# Altium schematic symbol library B-NT_CONNECT.SchLib: 107 symbols (part 2 of 2)
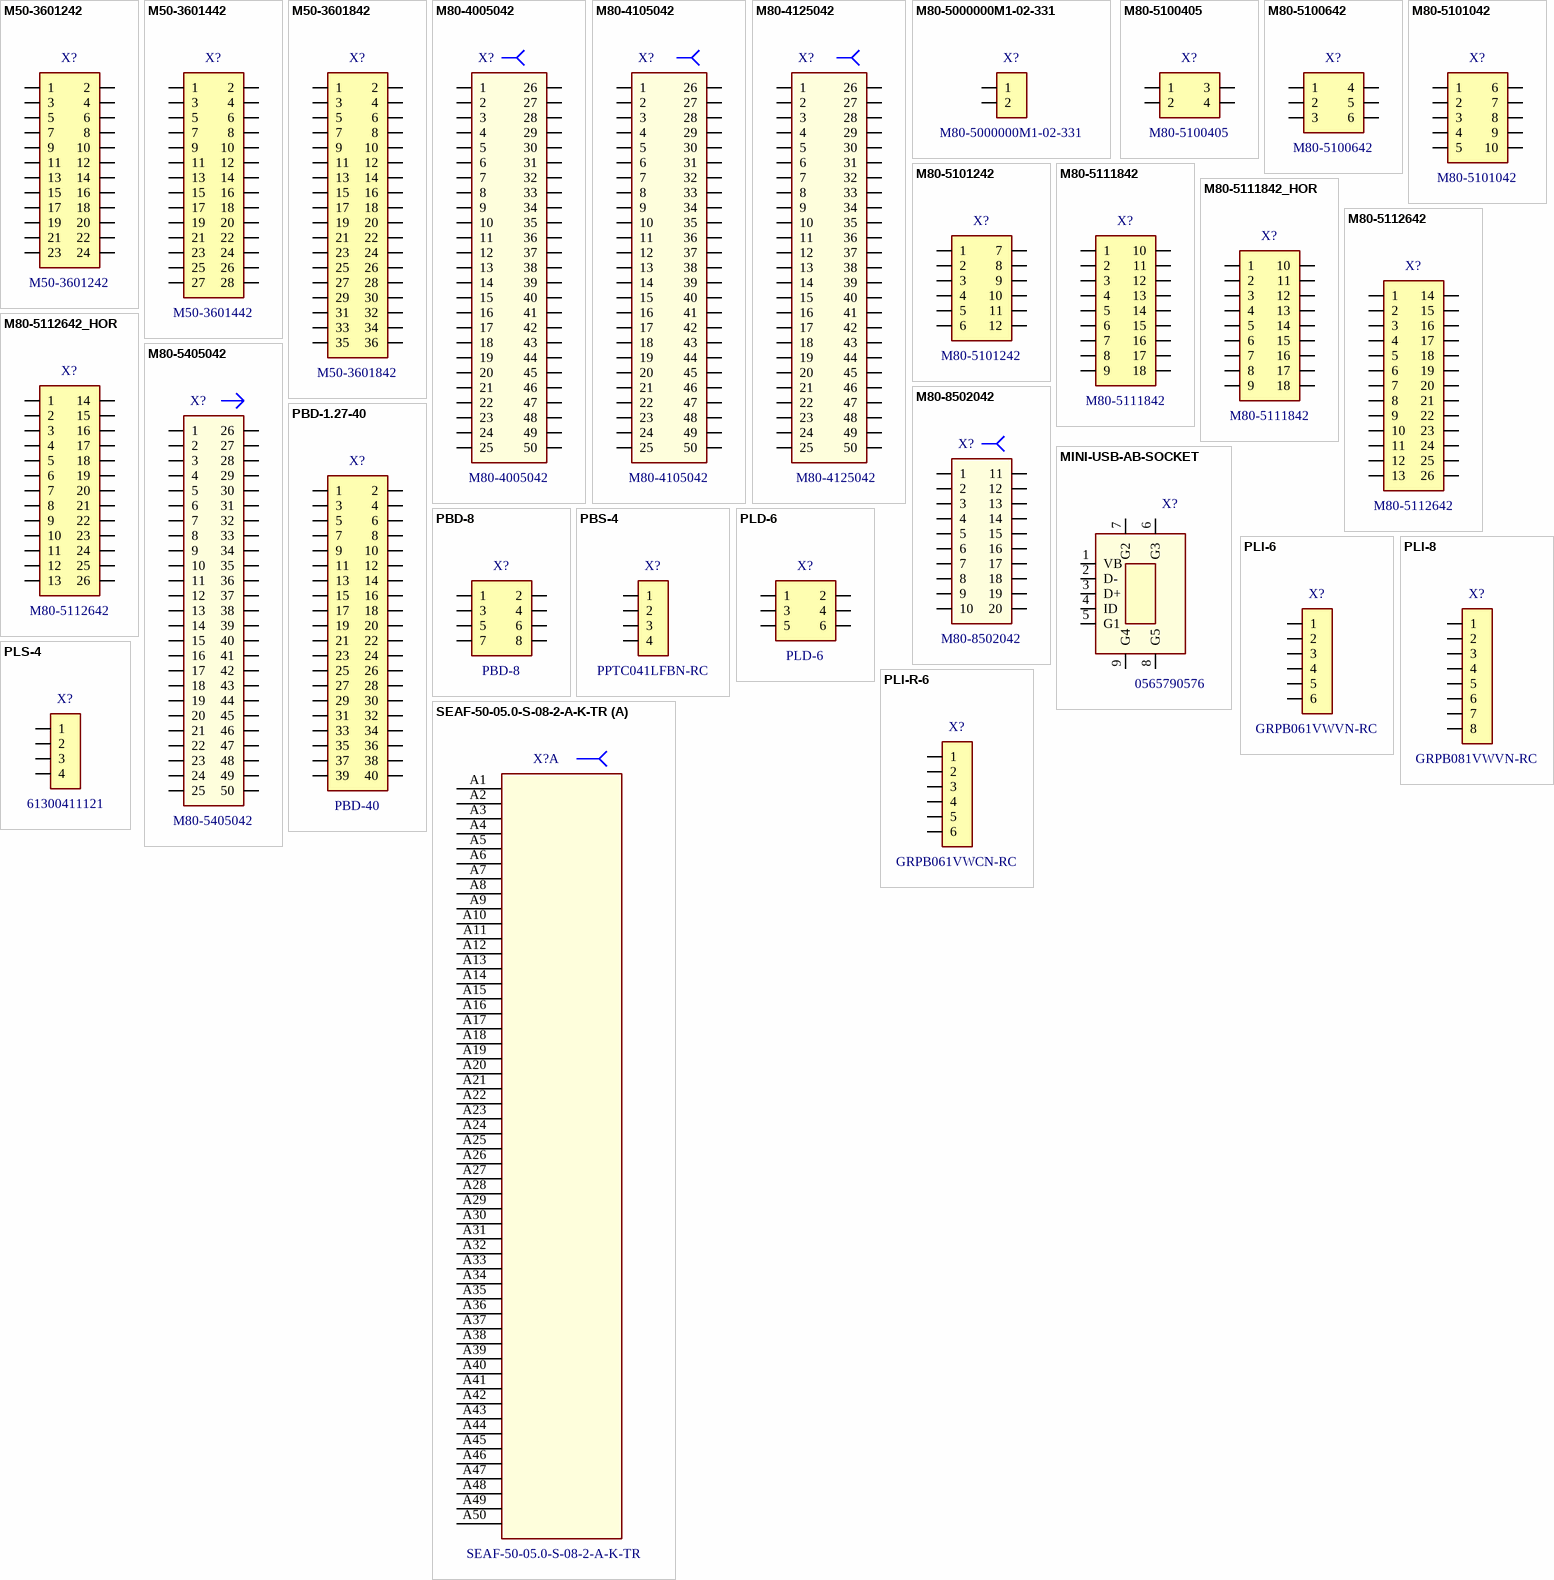
[diagram p8: symbols M50-3601242 to SEAF-50-05.0-S-08-2-A-K-TR]

## M80-5000000M1-02-331
designator X?  value M80-5000000M1-02-331
MIX-TEK 2 POS DIL MALE 4.0MM 20A 600V; ValueManufacturer: Harvin Inc.; PowerVoltage: 20A, 600V; ValueDescription: M80-5000000M1-02-331 Вилка Harvin Inc.  6.05x18.4mm  20A, 600V; ValueType: Connector; Price: 15.93; ComponentLink1Description: Harvin Datasheet; ComponentLink1URL: https://cdn.harwin.com/pdfs/C005XX_M80_and_M83_Datamate_Series_Connectors.pdf; Package: 6.05x18.4mm; TechSpec: 20A, 600V; ValueManufacturerPartNumber: M80-5000000M1-02-331; Operating Temperature: -55°C~125°C; CheckDate: SC 15.11.17
footprint M80-5000000M1-02-331
pins: 1, 2
1 alternate drawing of the same symbol

## M80-5100405
designator X?  value M80-5100405
J-TEK 4 POS DIL MALE 2.0MM 2.2A 800V; ValueManufacturer: Harvin Inc.; PowerVoltage: 2.2A, 800V; ValueDescription: M80-5100405 Вилка Harvin Inc.  6.05x14.4mm  2.2A, 800V; ValueType: Connector; Price: 15.93; ComponentLink1Description: Harvin Datasheet; ComponentLink1URL: https://cdn.harwin.com/pdfs/C005XX_M80_and_M83_Datamate_Series_Connectors.pdf; Package: 6.05x14.4mm; TechSpec: 2.2A, 800V; ValueManufacturerPartNumber: M80-5100405; Operating Temperature: -55°C~125°C; CheckDate: SC 15.11.17
footprint M80-5100405
pins: 1, 2, 3, 4

## M80-5100642
designator X?  value M80-5100642
J-TEK 6 POS DIL MALE 2.0MM 2.2A 800V; ValueManufacturer: Harvin Inc.; PowerVoltage: 2.2A, 800V; ValueDescription: M80-5100642 Вилка Harvin Inc.  6.05x16.4mm  2.2A, 800V; ValueType: Connector; Price: 11.51; ComponentLink1Description: Harvin Datasheet; ComponentLink1URL: https://cdn.harwin.com/pdfs/C005XX_M80_and_M83_Datamate_Series_Connectors.pdf; Package: 6.05x16.4mm; TechSpec: 2.2A, 800V; ValueManufacturerPartNumber: M80-5100642; Operating Temperature: -55°C~125°C; CheckDate: SC 15.11.17
footprint M80-5100642
pins: 1, 2, 3, 4, 5, 6

## M80-5101042
designator X?  value M80-5101042
J-TEK 10 POS DIL MALE 2.0MM 2.2A 800V; ValueManufacturer: Harvin Inc.; PowerVoltage: 2.2A, 800V; ValueDescription: M80-5101042 Вилка Harvin Inc.  6.05x20.4mm  2.2A, 800V; ValueType: Connector; Price: 11.96; ComponentLink1Description: Harvin Datasheet; ComponentLink1URL: https://cdn.harwin.com/pdfs/C005XX_M80_and_M83_Datamate_Series_Connectors.pdf; Package: 6.05x20.4mm; TechSpec: 2.2A, 800V; ValueManufacturerPartNumber: M80-5101042; Operating Temperature: -55°C~125°C; CheckDate: SC 15.11.17
footprint M80-5101042
pins: 1, 2, 3, 4, 5, 6, 7, 8, 9, 10

## M80-5101242
designator X?  value M80-5101242
J-TEK 12 POS DIL MALE 2.0MM 2.2A 800V; ValueManufacturer: Harvin Inc.; PowerVoltage: 2.2A, 800V; ValueDescription: M80-5101242 Вилка Harvin Inc.  6.05x22.4mm  2.2A, 800V; ValueType: Connector; Price: 9,3; ComponentLink1Description: Harvin Datasheet; ComponentLink1URL: https://cdn.harwin.com/pdfs/Harwin_Product_Catalog_page_105.pdf; Package: 6.05x22.4mm; TechSpec: 2.2A, 800V; ValueManufacturerPartNumber: M80-5101242; Operating Temperature: -55°C~125°C; CheckDate: SC 15.11.17
footprint M80-5101242
pins: 1, 2, 3, 4, 5, 6, 7, 8, 9, 10, 11, 12

## M80-5111842
designator X?  value M80-5111842
J-TEK 18 POS DIL MALE 2.0MM 2.2A 800V; ValueManufacturer: Harvin Inc.; PowerVoltage: 2.2A, 800V; ValueDescription: M80-5111842 Вилка Harvin Inc.  6.05x28mm  2.2A, 800V; ValueType: Connector; Price: 13.11; ComponentLink1Description: Harvin Datasheet; ComponentLink1URL: https://cdn.harwin.com/pdfs/M80-511.pdf; Package: 6.05x28mm; TechSpec: 2.2A, 800V; ValueManufacturerPartNumber: M80-5111842; Operating Temperature: -55°C~125°C; CheckDate: SC 15.11.17
footprint M80-5111842
pins: 1, 2, 3, 4, 5, 6, 7, 8, 9, 10, 11, 12, 13, 14, 15, 16, 17, 18

## M80-5111842_HOR
designator X?  value M80-5111842
J-TEK 18 POS DIL MALE 2.0MM 2.2A 800V; ValueManufacturer: Harvin Inc.; PowerVoltage: 2.2A, 800V; ValueDescription: M80-5111842 Вилка Harvin Inc.  6.05x28mm  2.2A, 800V; ValueType: Connector; Price: 13.11; ComponentLink1Description: Harvin Datasheet; ComponentLink1URL: https://cdn.harwin.com/pdfs/M80-511.pdf; Package: 6.05x28mm; TechSpec: 2.2A, 800V; ValueManufacturerPartNumber: M80-5111842; Operating Temperature: -55°C~125°C; CheckDate: SC 15.11.17
footprint M80-5111842_HOR
pins: 1, 2, 3, 4, 5, 6, 7, 8, 9, 10, 11, 12, 13, 14, 15, 16, 17, 18

## M80-5112642
designator X?  value M80-5112642
J-TEK 26 POS DIL MALE 2.0MM 2.2A 800V; ValueManufacturer: Harvin Inc.; PowerVoltage: 2.2A, 800V; ValueDescription: M80-5112642 Вилка Harvin Inc.  6.05x36mm  2.2A, 800V; ValueType: Connector; Price: 12.13; ComponentLink1Description: Harvin Datasheet; ComponentLink1URL: https://cdn.harwin.com/pdfs/M80-511.pdf; Package: 6.05x36mm; TechSpec: 2.2A, 800V; ValueManufacturerPartNumber: M80-5112642; Operating Temperature: -55°C~125°C; CheckDate: SC 15.11.17
footprint M80-5112642
pins: 1, 2, 3, 4, 5, 6, 7, 8, 9, 10, 11, 12, 13, 14, 15, 16, 17, 18, 19, 20, 21, 22, 23, 24, 25, 26

## M80-5112642_HOR
designator X?  value M80-5112642
J-TEK 26 POS DIL MALE 2.0MM 2.2A 800V; ValueManufacturer: Harvin Inc.; PowerVoltage: 2.2A, 800V; ValueDescription: M80-5112642 Вилка Harvin Inc.  6.05x36mm  2.2A, 800V; ValueType: Connector; Price: 12.13; ComponentLink1Description: Harvin Datasheet; ComponentLink1URL: https://cdn.harwin.com/pdfs/M80-511.pdf; Package: 6.05x36mm; TechSpec: 2.2A, 800V; ValueManufacturerPartNumber: M80-5112642; Operating Temperature: -55°C~125°C; CheckDate: SC 15.11.17
footprint M80-5112642_HOR
pins: 1, 2, 3, 4, 5, 6, 7, 8, 9, 10, 11, 12, 13, 14, 15, 16, 17, 18, 19, 20, 21, 22, 23, 24, 25, 26

## M80-5405042
designator X?  value M80-5405042
CONN HDR 2MM R/A W/SCREW 50POS; ValueManufacturer: Harwin Inc.; PowerVoltage: 2.2A, 800V; TechSpec: 3A; ValueDescription: M80-5405042 Вилка Harwin Inc.  10x60mm  3A; ValueType: Male Socket; Price: 19.04; ComponentLink1Description: Harwin Datasheet; ComponentLink1URL: https://cdn.harwin.com/pdfs/M80-540.pdf; Package: 10x60mm; Operating Temperature: -55°C~125°C; CheckDate: SC *; ValueManufacturerPartNumber: M80-5405042
footprint M80-5405042 (CONN HDR 2MM R/A W/SCREW 50POS)
pins: 1, 2, 3, 4, 5, 6, 7, 8, 9, 10, 11, 12, 13, 14, 15, 16, 17, 18, 19, 20, 21, 22, 23, 24, 25, 26, 27, 28, 29, 30, 31, 32, 33, 34, 35, 36, 37, 38, 39, 40, 41, 42, 43, 44, 45, 46, 47, 48, 49, 50

## M80-8502042
designator X?  value M80-8502042
DIL FEMALE VERT PC TAIL CONN; ValueManufacturer: Harwin Inc.; PowerVoltage: 2.2A, 800V; TechSpec: 3A, 800V; ValueDescription: M80-8502042 Розетка Harwin Inc.  5.45x23.15mm  3A, 800V; ValueType: Female Socket; Price: 8.46; ComponentLink1Description: Harwin Datasheet; ComponentLink1URL: https://cdn.harwin.com/pdfs/M80-850.pdf; Package: 5.45x23.15mm; ValueManufacturerPartNumber: M80-8502042; Operating Temperature: -55°C~125°C; CheckDate: SC *
footprint M80-8502042
pins: 1, 2, 3, 4, 5, 6, 7, 8, 9, 10, 11, 12, 13, 14, 15, 16, 17, 18, 19, 20

## MINI-USB-AB-SOCKET
designator X?  value 0565790576
CONN RECEPT USB 5POS R/A SMD; ValueManufacturer: Molex LLC Connectors; TechSpec: USB 2.0 OTG; ValueDescription: 0565790576 USB розетка Molex LLC Connectors  9.9x9  USB 2.0 OTG; ValueType: Connector; Price: 2.92; ComponentLink1Description: Molex Datasheet; ComponentLink1URL: http://www.molex.com/pdm_docs/sd/565790576_sd.pdf; Package: 9.9x9; ValueManufacturerPartNumber: 0565790576; Operating Temperature: -20°C ~ 85°C; CheckDate: SC *
footprint 0565790576_mini_USB
pins: 1 VB, 2 D-, 3 D+, 4 ID, 5 G1, 6 G3, 7 G2, 8 G5, 9 G4

## PBD-1.27-40
designator X?  value PBD-40
CONN RECEPT 40POS DUAL SMD; ValueManufacturer: Amphenol FCI; ValueManufacturerPartNumber: 20021321-00040T4LF; TechSpec: Шаг 1.27; Tolerance: Gold; ValueDescription: PBD-40 Двухрядная розетка Amphenol FCI  20021321-00040T4LF  Шаг 1.27; ValueType: Connector; Price: 0.5; ComponentLink1Description: Amphenol FCI; ComponentLink1URL: https://cdn.amphenol-icc.com/media/wysiwyg/files/drawing/20021321.pdf; Package: PBD-40; Operating Temperature: -40°C ~ 105°C; CheckDate: SC *
footprint PBD-40
pins: 1, 2, 3, 4, 5, 6, 7, 8, 9, 10, 11, 12, 13, 14, 15, 16, 17, 18, 19, 20, 21, 22, 23, 24, 25, 26, 27, 28, 29, 30, 31, 32, 33, 34, 35, 36, 37, 38, 39, 40

## PBD-8
designator X?  value PBD-8
CONN HEADER FMALE 8PS; ValueManufacturer: Sullins Connector Solutions; ValueManufacturerPartNumber: PPTC042LFBN-RC; TechSpec: Шаг 2.54; ValueDescription: PBD-8 Двухрядная розетка Sullins Connector Solutions  PPTC042LFBN-RC  Шаг 2.54; ValueType: Connector; Price: 0.5; ComponentLink1Description: Sullins Connector Solutions Datasheet; ComponentLink1URL: https://lib.chipdip.ru/226/DOC000226931.pdf; Package: PBD-8; CheckDate: SC *
footprint PBD-8
pins: 1, 2, 3, 4, 5, 6, 7, 8

## PBS-4
designator X?  value PPTC041LFBN-RC
CONN HEADER FEMALE 4 POS 2.54; ValueManufacturer: Sullins Connector Solutions; PowerVoltage: 250V; TechSpec: 3A; ValueDescription: PPTC041LFBN-RC Розетка Sullins Connector Solutions  2.54x10.16mm  3A; ValueType: Connector; Price: 0.19; ComponentLink1Description: Sullins Datasheet; ComponentLink1URL: http://www.sullinscorp.com/drawings/78_P(N)PxCxxxLFBN-RC,_10492-H.pdf; Package: 2.54x10.16mm; ValueManufacturerPartNumber: PPTC041LFBN-RC; Operating Temperature: -40°C~125°C; CheckDate: SC 14.11.17
footprint PBS-4
pins: 1, 2, 3, 4

## PLD-6
designator X?  value PLD-6
PLD-6 HEADR 6POS VERT 826656-3 (Tyco/AMP); TechSpec: Шаг 2.54; ValueDescription: PLD-6 Двухрядная вилка Tyco/AMP  826656-3  Шаг 2.54; ValueType: Connector; Price: 0.5; ComponentLink1Description: Tyco/AMP Datasheet; ComponentLink1URL: http://www.farnell.com/datasheets/39269.pdf; Package: PLD-6; ValueManufacturer: Tyco/AMP; ValueManufacturerPartNumber: 826656-3; CheckDate: SC 18.12.16
footprint PLD-6
pins: 1, 2, 3, 4, 5, 6

## PLl-6
designator X?  value GRPB061VWVN-RC
CONN HEADER 6 POS 1.27; ValueManufacturer: Sullins Connector Soluti; TechSpec: 1A; ValueDescription: GRPB061VWVN-RC Вилка Sullins Connector Soluti  2.14x7.62mm  1A; ValueType: Connector; Price: 0.48; ComponentLink1Description: Sullins Connector Solution Datasheet; ComponentLink1URL: http://www.sullinscorp.com/catalogs/82_PAGE90-91_.050_MALE_HDR_ST_RA_SMT.pdf; Package: 2.14x7.62mm; ValueManufacturerPartNumber: GRPB061VWVN-RC; Operating Temperature: -40°C~105°C; CheckDate: SC 28.11.17
footprint PLL-6
pins: 1, 2, 3, 4, 5, 6

## PLl-8
designator X?  value GRPB081VWVN-RC
CONN HEADER 8 POS 1.27; ValueManufacturer: Sullins Connector Soluti; TechSpec: 1A; ValueDescription: GRPB081VWVN-RC Вилка Sullins Connector Soluti  2.14x10.16mm  1A; ValueType: Connector; Price: 0.72; Package: 2.14x10.16mm; ValueManufacturerPartNumber: GRPB081VWVN-RC; Operating Temperature: -40°C~105°C; CheckDate: SC *; ComponentLink1Description: Sullins Connector Solution Datasheet; ComponentLink1URL: http://www.sullinscorp.com/drawings/71_GRPB___1VWVN-RC,_10957-C.pdf
footprint PLL-8
pins: 1, 2, 3, 4, 5, 6, 7, 8

## PLl-R-6
designator X?  value GRPB061VWCN-RC
CONN HEADER 6 POS 1.27 RIGHT ANGLE; ValueManufacturer: Sullins Connector Soluti; TechSpec: 1A; ValueDescription: GRPB061VWCN-RC Вилка угловая Sullins Connector Soluti  5.14x7.62mm  1A; ValueType: Connector; Price: 0.65; ComponentLink1Description: Sullins Connector Solution Datasheet; ComponentLink1URL: http://www.sullinscorp.com/catalogs/82_PAGE90-91_.050_MALE_HDR_ST_RA_SMT.pdf; Package: 5.14x7.62mm; ValueManufacturerPartNumber: GRPB061VWCN-RC; Operating Temperature: -40°C~105°C; CheckDate: SC 28.11.17
footprint PLL-R-6
pins: 1, 2, 3, 4, 5, 6

## PLS-4
designator X?  value 61300411121
CONN HEADER 4 POS 2.54; ValueManufacturer: Wurth Electronics; PowerVoltage: 250V; TechSpec: 3A; ValueDescription: 61300411121 Вилка Wurth Electronics  2.54x10.16mm  3A; ValueType: Connector; Price: 0.19; ComponentLink1Description: Wurth Electronics Datasheet; ComponentLink1URL: http://katalog.we-online.de/em/datasheet/6130xx11121.pdf; Package: 2.54x10.16mm; ValueManufacturerPartNumber: 61300411121; Operating Temperature: -40°C~125°C; CheckDate: SC 14.11.17
footprint PLS-4
pins: 1, 2, 3, 4

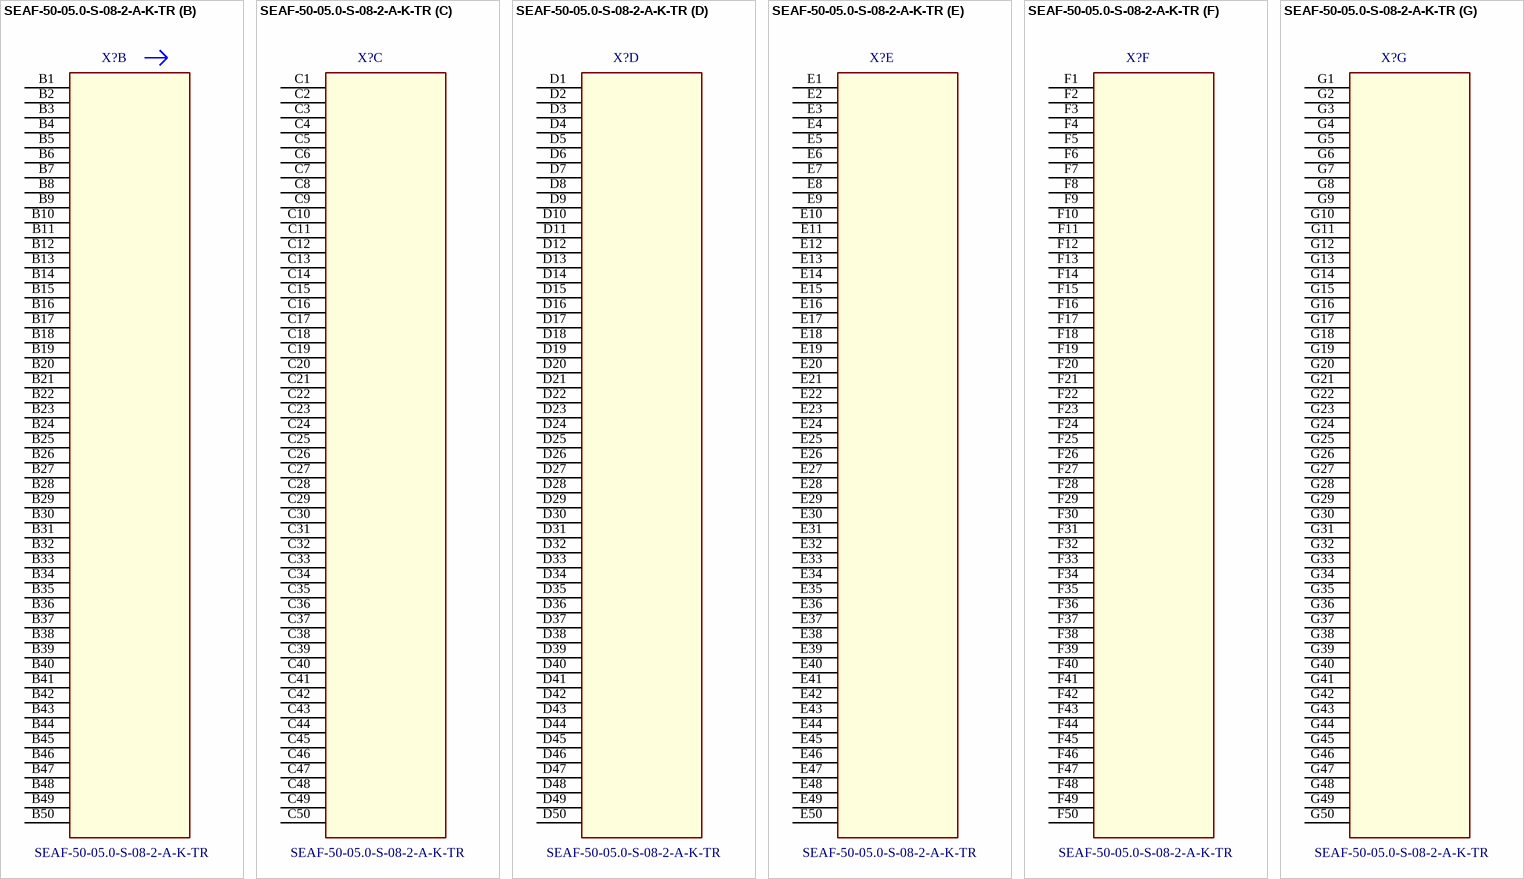
[diagram p3: symbol SEAF-50-05.0-S-08-2-A-K-TR]

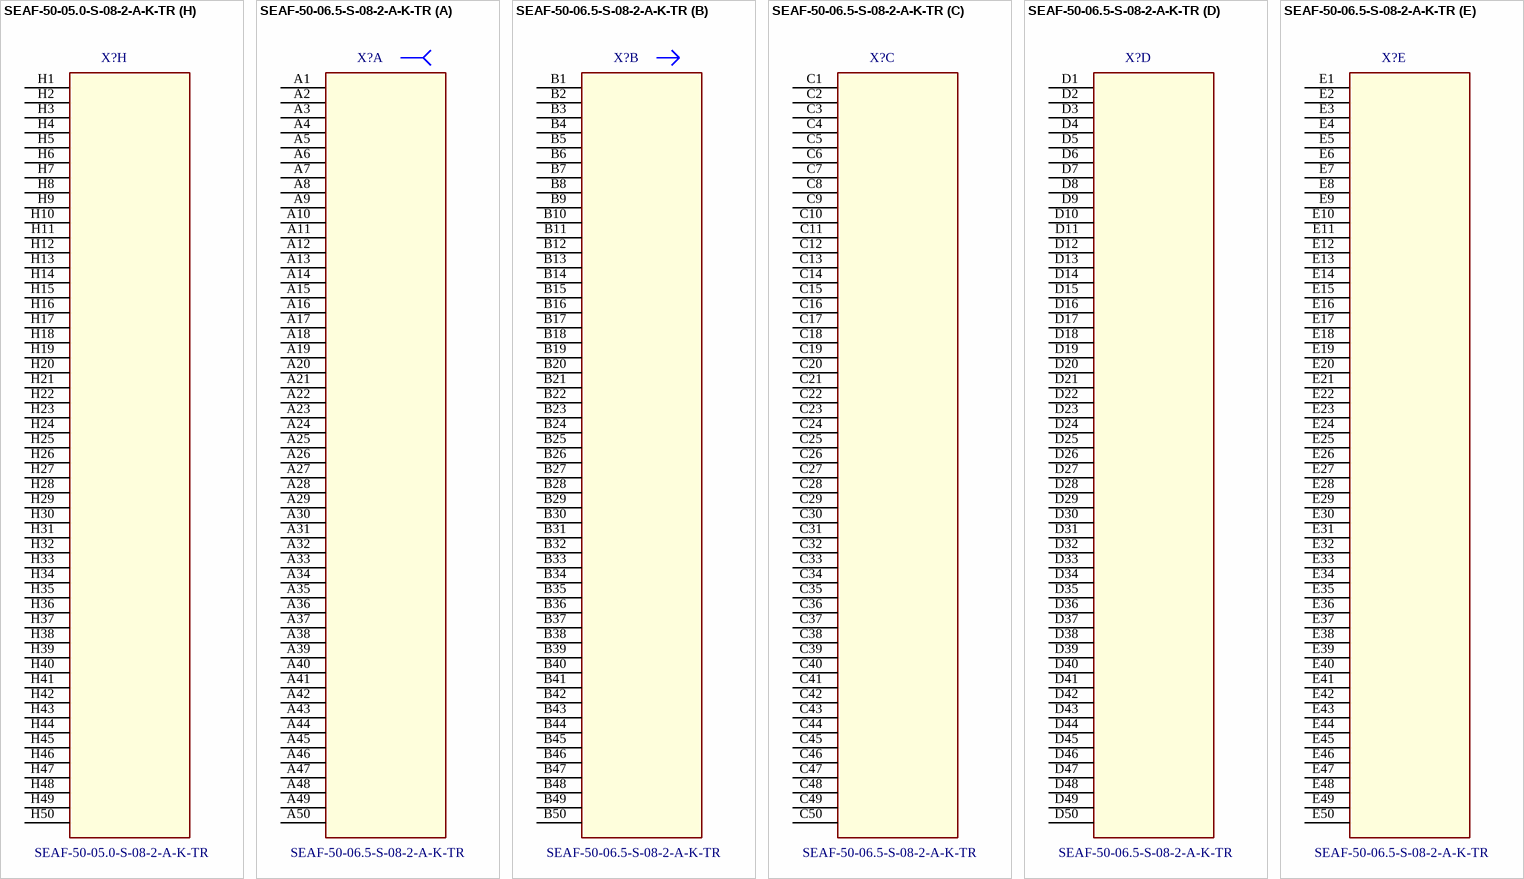
[diagram p4: symbols SEAF-50-05.0-S-08-2-A-K-TR to SEAF-50-06.5-S-08-2-A-K-TR]

## SEAF-50-05.0-S-08-2-A-K-TR
designator X?  value SEAF-50-05.0-S-08-2-A-K-TR
CONN FML 400POS 8ROW SMD GOLD; ValueManufacturer: Samtec Inc; PowerVoltage: V; ValueDescription: SEAF-50-05.0-S-08-2-A-K-TR Розетка Samtec Inc  70.16X10.74х5.05mm; ValueType: Female Socket; Price: 17,05; ComponentLink1Description: Samtec  Datasheet; ComponentLink1URL: http://suddendocs.samtec.com/prints/seaf-xx-xx.x-xx-xx-x-a-xx-k-tr-mkt.pdf; Package: 70.16X10.74х5.05mm; Operating Temperature: °C; CheckDate: SC; Publisher: Makarevich; ValueManufacturerPartNumber: SEAF-50-05.0-S-08-2-A-K-TR; PublishData: 02.03.18
footprint SEAF-50-05.0-S-08-2-A-K-TR (CONN FML 400POS 8ROW SMD GOLD)
part A pins: A1 1, A2 2, A3 3, A4 4, A5 5, A6 6, A7 7, A8 8, A9 9, A10 10, A11 11, A12 12, A13 13, A14 14, A15 15, A16 16, A17 17, A18 18, A19 19, A20 20, A21 21, A22 22, A23 23, A24 24, A25 25, A26 26, A27 27, A28 28, A29 29, A30 30, A31 31, A32 32, A33 33, A34 34, A35 35, A36 36, A37 37, A38 38, A39 39, A40 40, A41 41, A42 42, A43 43, A44 44, A45 45, A46 46, A47 47, A48 48, A49 49, A50 50
part B pins: B1 1, B2 2, B3 3, B4 4, B5 5, B6 6, B7 7, B8 8, B9 9, B10 10, B11 11, B12 12, B13 13, B14 14, B15 15, B16 16, B17 17, B18 18, B19 19, B20 20, B21 21, B22 22, B23 23, B24 24, B25 25, B26 26, B27 27, B28 28, B29 29, B30 30, B31 31, B32 32, B33 33, B34 34, B35 35, B36 36, B37 37, B38 38, B39 39, B40 40, B41 41, B42 42, B43 43, B44 44, B45 45, B46 46, B47 47, B48 48, B49 49, B50 50
part C pins: C1 1, C2 2, C3 3, C4 4, C5 5, C6 6, C7 7, C8 8, C9 9, C10 10, C11 11, C12 12, C13 13, C14 14, C15 15, C16 16, C17 17, C18 18, C19 19, C20 20, C21 21, C22 22, C23 23, C24 24, C25 25, C26 26, C27 27, C28 28, C29 29, C30 30, C31 31, C32 32, C33 33, C34 34, C35 35, C36 36, C37 37, C38 38, C39 39, C40 40, C41 41, C42 42, C43 43, C44 44, C45 45, C46 46, C47 47, C48 48, C49 49, C50 50
part D pins: D1 1, D2 2, D3 3, D4 4, D5 5, D6 6, D7 7, D8 8, D9 9, D10 10, D11 11, D12 12, D13 13, D14 14, D15 15, D16 16, D17 17, D18 18, D19 19, D20 20, D21 21, D22 22, D23 23, D24 24, D25 25, D26 26, D27 27, D28 28, D29 29, D30 30, D31 31, D32 32, D33 33, D34 34, D35 35, D36 36, D37 37, D38 38, D39 39, D40 40, D41 41, D42 42, D43 43, D44 44, D45 45, D46 46, D47 47, D48 48, D49 49, D50 50
part E pins: E1 1, E2 2, E3 3, E4 4, E5 5, E6 6, E7 7, E8 8, E9 9, E10 10, E11 11, E12 12, E13 13, E14 14, E15 15, E16 16, E17 17, E18 18, E19 19, E20 20, E21 21, E22 22, E23 23, E24 24, E25 25, E26 26, E27 27, E28 28, E29 29, E30 30, E31 31, E32 32, E33 33, E34 34, E35 35, E36 36, E37 37, E38 38, E39 39, E40 40, E41 41, E42 42, E43 43, E44 44, E45 45, E46 46, E47 47, E48 48, E49 49, E50 50
part F pins: F1 1, F2 2, F3 3, F4 4, F5 5, F6 6, F7 7, F8 8, F9 9, F10 10, F11 11, F12 12, F13 13, F14 14, F15 15, F16 16, F17 17, F18 18, F19 19, F20 20, F21 21, F22 22, F23 23, F24 24, F25 25, F26 26, F27 27, F28 28, F29 29, F30 30, F31 31, F32 32, F33 33, F34 34, F35 35, F36 36, F37 37, F38 38, F39 39, F40 40, F41 41, F42 42, F43 43, F44 44, F45 45, F46 46, F47 47, F48 48, F49 49, F50 50
part G pins: G1 1, G2 2, G3 3, G4 4, G5 5, G6 6, G7 7, G8 8, G9 9, G10 10, G11 11, G12 12, G13 13, G14 14, G15 15, G16 16, G17 17, G18 18, G19 19, G20 20, G21 21, G22 22, G23 23, G24 24, G25 25, G26 26, G27 27, G28 28, G29 29, G30 30, G31 31, G32 32, G33 33, G34 34, G35 35, G36 36, G37 37, G38 38, G39 39, G40 40, G41 41, G42 42, G43 43, G44 44, G45 45, G46 46, G47 47, G48 48, G49 49, G50 50
part H pins: H1 1, H2 2, H3 3, H4 4, H5 5, H6 6, H7 7, H8 8, H9 9, H10 10, H11 11, H12 12, H13 13, H14 14, H15 15, H16 16, H17 17, H18 18, H19 19, H20 20, H21 21, H22 22, H23 23, H24 24, H25 25, H26 26, H27 27, H28 28, H29 29, H30 30, H31 31, H32 32, H33 33, H34 34, H35 35, H36 36, H37 37, H38 38, H39 39, H40 40, H41 41, H42 42, H43 43, H44 44, H45 45, H46 46, H47 47, H48 48, H49 49, H50 50

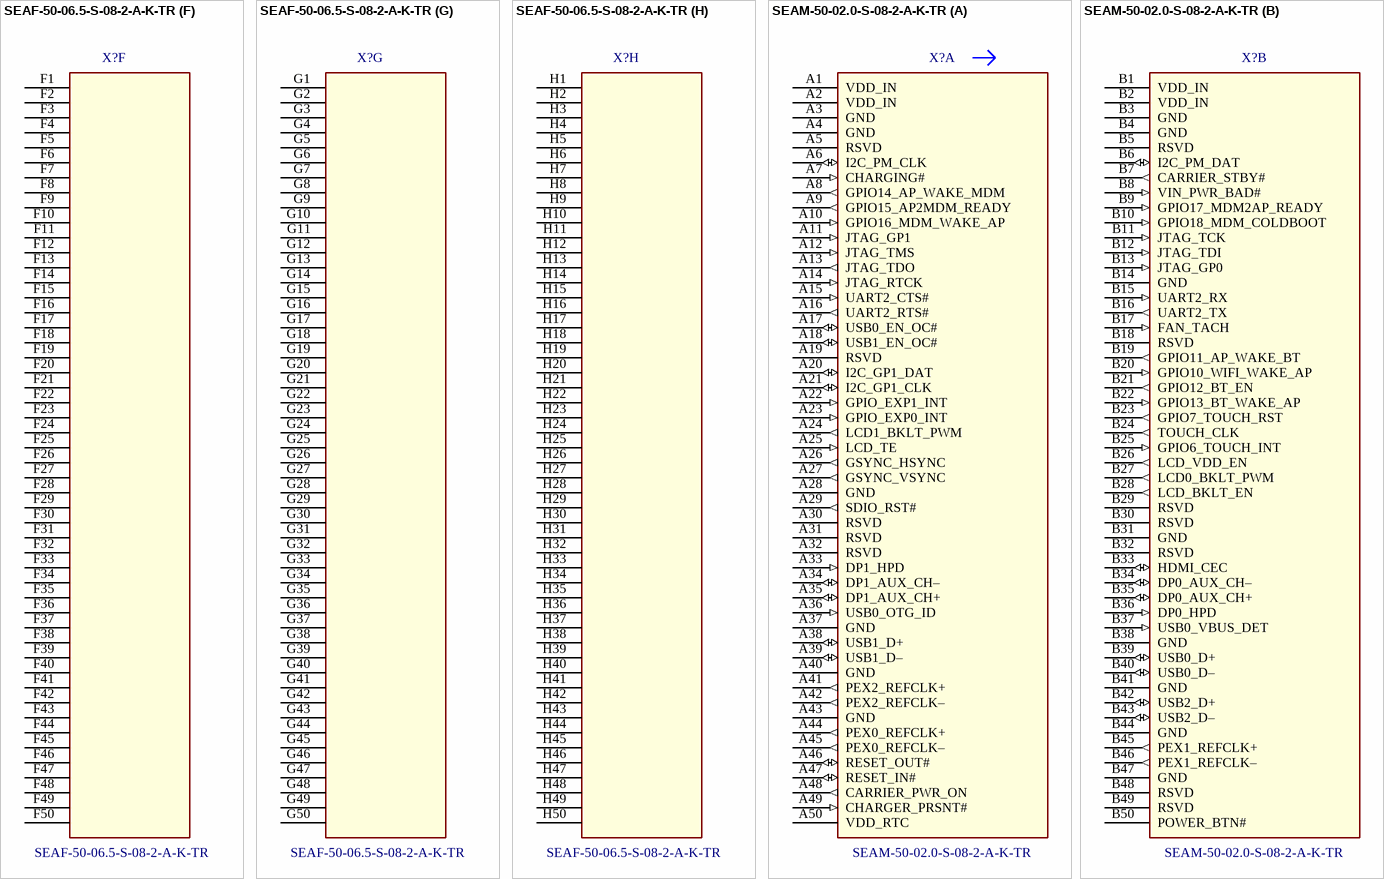
[diagram p5: symbols SEAF-50-06.5-S-08-2-A-K-TR to SEAM-50-02.0-S-08-2-A-K-TR]

## SEAF-50-06.5-S-08-2-A-K-TR
designator X?  value SEAF-50-06.5-S-08-2-A-K-TR
CONN FML 400POS 8ROW SMD GOLD; ValueManufacturer: Samtec Inc; PowerVoltage: V; ValueDescription: SEAF-50-06.5-S-08-2-A-K-TR Розетка Samtec Inc  70.16X10.74х5.05mm; ValueType: Female Socket; Price: 18,52; ComponentLink1Description: Samtec  Datasheet; ComponentLink1URL: http://suddendocs.samtec.com/prints/seaf-xx-xx.x-xx-xx-x-a-xx-k-tr-mkt.pdf; Package: 70.16X10.74х5.05mm; Operating Temperature: °C; CheckDate: SC; Publisher: Makarevich; ValueManufacturerPartNumber: SEAF-50-06.5-S-08-2-A-K-TR; PublishData: 02.03.18
footprint SEAF-50-06.5-S-08-2-A-K-TR (CONN FML 400POS 8ROW SMD GOLD)
part A pins: A1 1, A2 2, A3 3, A4 4, A5 5, A6 6, A7 7, A8 8, A9 9, A10 10, A11 11, A12 12, A13 13, A14 14, A15 15, A16 16, A17 17, A18 18, A19 19, A20 20, A21 21, A22 22, A23 23, A24 24, A25 25, A26 26, A27 27, A28 28, A29 29, A30 30, A31 31, A32 32, A33 33, A34 34, A35 35, A36 36, A37 37, A38 38, A39 39, A40 40, A41 41, A42 42, A43 43, A44 44, A45 45, A46 46, A47 47, A48 48, A49 49, A50 50
part B pins: B1 1, B2 2, B3 3, B4 4, B5 5, B6 6, B7 7, B8 8, B9 9, B10 10, B11 11, B12 12, B13 13, B14 14, B15 15, B16 16, B17 17, B18 18, B19 19, B20 20, B21 21, B22 22, B23 23, B24 24, B25 25, B26 26, B27 27, B28 28, B29 29, B30 30, B31 31, B32 32, B33 33, B34 34, B35 35, B36 36, B37 37, B38 38, B39 39, B40 40, B41 41, B42 42, B43 43, B44 44, B45 45, B46 46, B47 47, B48 48, B49 49, B50 50
part C pins: C1 1, C2 2, C3 3, C4 4, C5 5, C6 6, C7 7, C8 8, C9 9, C10 10, C11 11, C12 12, C13 13, C14 14, C15 15, C16 16, C17 17, C18 18, C19 19, C20 20, C21 21, C22 22, C23 23, C24 24, C25 25, C26 26, C27 27, C28 28, C29 29, C30 30, C31 31, C32 32, C33 33, C34 34, C35 35, C36 36, C37 37, C38 38, C39 39, C40 40, C41 41, C42 42, C43 43, C44 44, C45 45, C46 46, C47 47, C48 48, C49 49, C50 50
part D pins: D1 1, D2 2, D3 3, D4 4, D5 5, D6 6, D7 7, D8 8, D9 9, D10 10, D11 11, D12 12, D13 13, D14 14, D15 15, D16 16, D17 17, D18 18, D19 19, D20 20, D21 21, D22 22, D23 23, D24 24, D25 25, D26 26, D27 27, D28 28, D29 29, D30 30, D31 31, D32 32, D33 33, D34 34, D35 35, D36 36, D37 37, D38 38, D39 39, D40 40, D41 41, D42 42, D43 43, D44 44, D45 45, D46 46, D47 47, D48 48, D49 49, D50 50
part E pins: E1 1, E2 2, E3 3, E4 4, E5 5, E6 6, E7 7, E8 8, E9 9, E10 10, E11 11, E12 12, E13 13, E14 14, E15 15, E16 16, E17 17, E18 18, E19 19, E20 20, E21 21, E22 22, E23 23, E24 24, E25 25, E26 26, E27 27, E28 28, E29 29, E30 30, E31 31, E32 32, E33 33, E34 34, E35 35, E36 36, E37 37, E38 38, E39 39, E40 40, E41 41, E42 42, E43 43, E44 44, E45 45, E46 46, E47 47, E48 48, E49 49, E50 50
part F pins: F1 1, F2 2, F3 3, F4 4, F5 5, F6 6, F7 7, F8 8, F9 9, F10 10, F11 11, F12 12, F13 13, F14 14, F15 15, F16 16, F17 17, F18 18, F19 19, F20 20, F21 21, F22 22, F23 23, F24 24, F25 25, F26 26, F27 27, F28 28, F29 29, F30 30, F31 31, F32 32, F33 33, F34 34, F35 35, F36 36, F37 37, F38 38, F39 39, F40 40, F41 41, F42 42, F43 43, F44 44, F45 45, F46 46, F47 47, F48 48, F49 49, F50 50
part G pins: G1 1, G2 2, G3 3, G4 4, G5 5, G6 6, G7 7, G8 8, G9 9, G10 10, G11 11, G12 12, G13 13, G14 14, G15 15, G16 16, G17 17, G18 18, G19 19, G20 20, G21 21, G22 22, G23 23, G24 24, G25 25, G26 26, G27 27, G28 28, G29 29, G30 30, G31 31, G32 32, G33 33, G34 34, G35 35, G36 36, G37 37, G38 38, G39 39, G40 40, G41 41, G42 42, G43 43, G44 44, G45 45, G46 46, G47 47, G48 48, G49 49, G50 50
part H pins: H1 1, H2 2, H3 3, H4 4, H5 5, H6 6, H7 7, H8 8, H9 9, H10 10, H11 11, H12 12, H13 13, H14 14, H15 15, H16 16, H17 17, H18 18, H19 19, H20 20, H21 21, H22 22, H23 23, H24 24, H25 25, H26 26, H27 27, H28 28, H29 29, H30 30, H31 31, H32 32, H33 33, H34 34, H35 35, H36 36, H37 37, H38 38, H39 39, H40 40, H41 41, H42 42, H43 43, H44 44, H45 45, H46 46, H47 47, H48 48, H49 49, H50 50

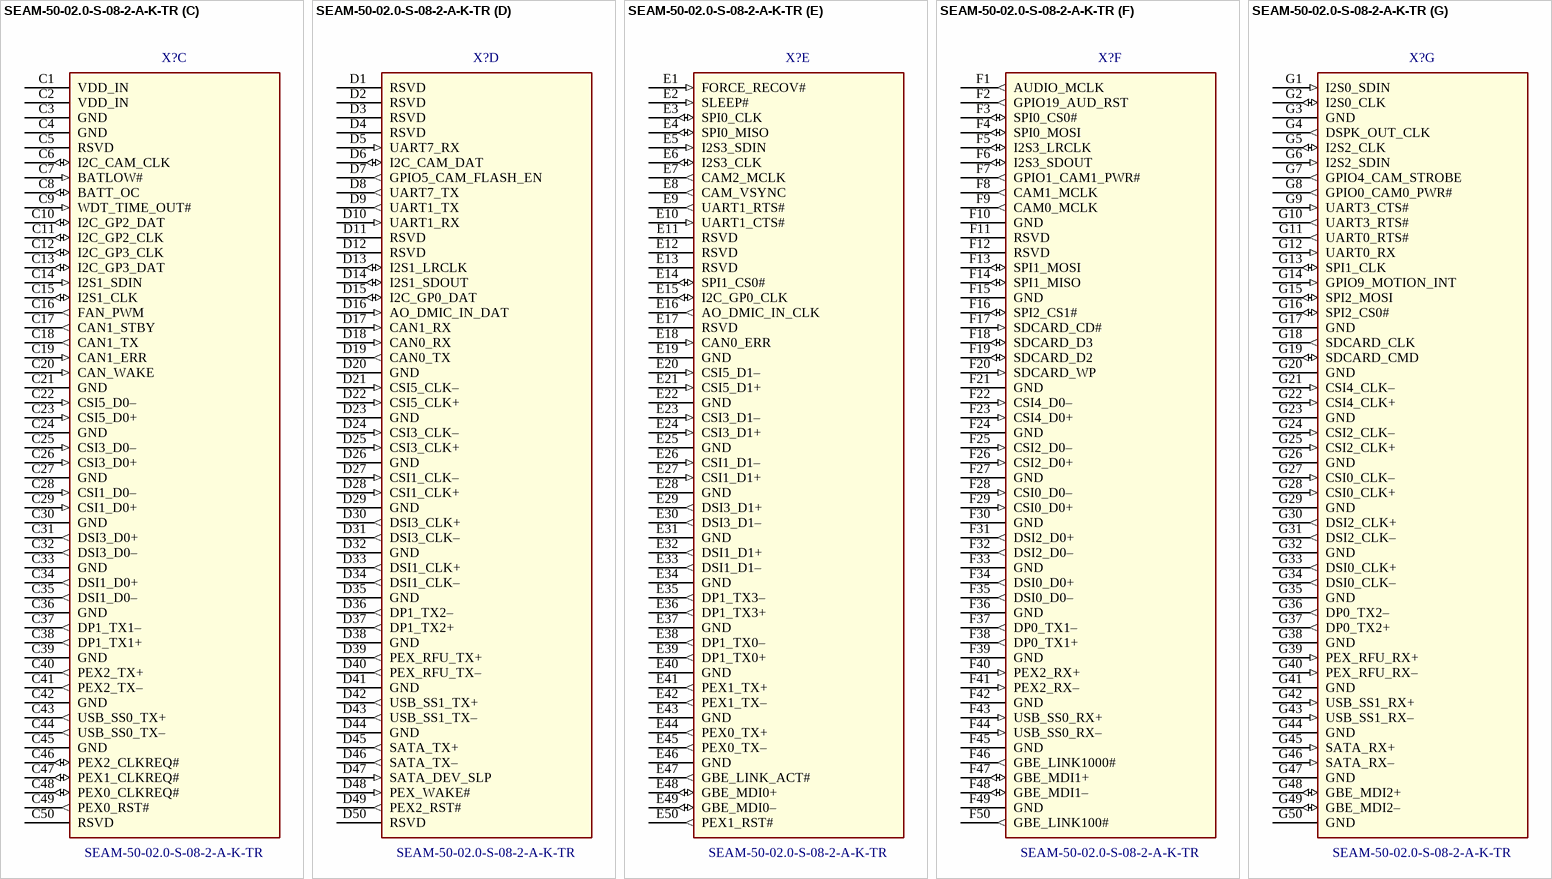
[diagram p6: symbol SEAM-50-02.0-S-08-2-A-K-TR]

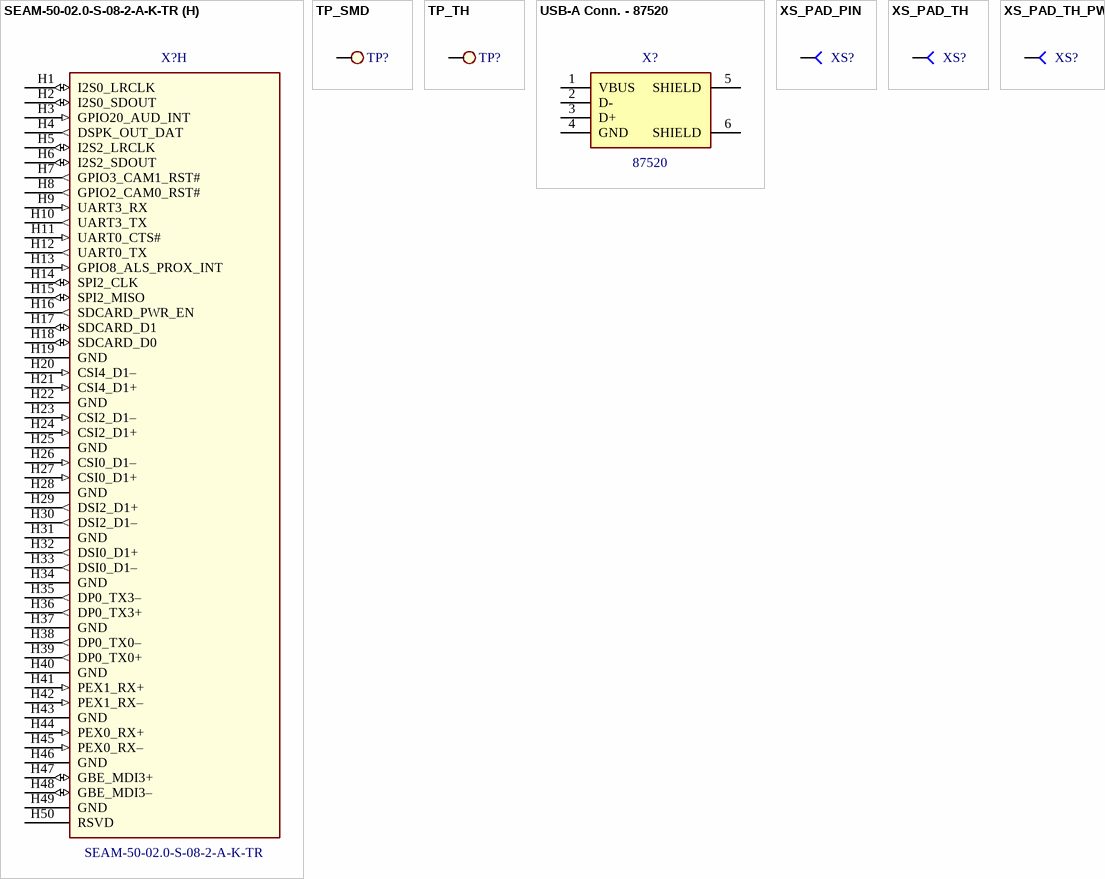
[diagram p7: symbols SEAM-50-02.0-S-08-2-A-K-TR to XS_PAD_TH_PWR]

## SEAM-50-02.0-S-08-2-A-K-TR
designator X?  value SEAM-50-02.0-S-08-2-A-K-TR
CONN MALE 400POS 8ROW SMD GOLD; ValueManufacturer: Samtec Inc; PowerVoltage: 2.7 А; ValueDescription: SEAM-50-02.0-S-08-2-A-K-TR Вилка Samtec Inc  12.14X69.37x5.61mm; ValueType: Male Socket; Price: 18.81; ComponentLink1Description: Samtec  Datasheet; ComponentLink1URL: http://suddendocs.samtec.com/prints/seam-xx-xx.x-xx-xx-x-a-xx-k-tr-mkt.pdf; Package: 12.14X69.37x5.61mm; Operating Temperature: -55°C~125°C; CheckDate: SC *; ValueManufacturerPartNumber: SEAM-50-02.0-S-08-2-A-K-TR
footprint SEAM-50-02.0-S-08-2-A-K-TR
part A pins: A1 VDD_IN, A2 VDD_IN, A3 GND, A4 GND, A5 RSVD, A6 I2C_PM_CLK (io), A7 CHARGING# (in), A8 GPIO14_AP_WAKE_MDM (out), A9 GPIO15_AP2MDM_READY (out), A10 GPIO16_MDM_WAKE_AP (in), A11 JTAG_GP1 (in), A12 JTAG_TMS (in), A13 JTAG_TDO (out), A14 JTAG_RTCK (in), A15 UART2_CTS# (in), A16 UART2_RTS# (out), A17 USB0_EN_OC# (io), A18 USB1_EN_OC# (io), A19 RSVD, A20 I2C_GP1_DAT (io), A21 I2C_GP1_CLK (io), A22 GPIO_EXP1_INT (in), A23 GPIO_EXP0_INT (in), A24 LCD1_BKLT_PWM (out), A25 LCD_TE (in), A26 GSYNC_HSYNC (out), A27 GSYNC_VSYNC (out), A28 GND, A29 SDIO_RST# (out), A30 RSVD, A31 RSVD, A32 RSVD, A33 DP1_HPD (in), A34 DP1_AUX_CH– (io), A35 DP1_AUX_CH+ (io), A36 USB0_OTG_ID (in), A37 GND, A38 USB1_D+ (io), A39 USB1_D– (io), A40 GND, A41 PEX2_REFCLK+ (out), A42 PEX2_REFCLK– (out), A43 GND, A44 PEX0_REFCLK+ (out), A45 PEX0_REFCLK– (out), A46 RESET_OUT# (io), A47 RESET_IN# (io), A48 CARRIER_PWR_ON (out), A49 CHARGER_PRSNT# (in), A50 VDD_RTC
part B pins: B1 VDD_IN, B2 VDD_IN, B3 GND, B4 GND, B5 RSVD, B6 I2C_PM_DAT (io), B7 CARRIER_STBY# (out), B8 VIN_PWR_BAD# (in), B9 GPIO17_MDM2AP_READY (in), B10 GPIO18_MDM_COLDBOOT (in), B11 JTAG_TCK (in), B12 JTAG_TDI (in), B13 JTAG_GP0 (in), B14 GND, B15 UART2_RX (in), B16 UART2_TX (out), B17 FAN_TACH (in), B18 RSVD, B19 GPIO11_AP_WAKE_BT (out), B20 GPIO10_WIFI_WAKE_AP (in), B21 GPIO12_BT_EN (out), B22 GPIO13_BT_WAKE_AP (in), B23 GPIO7_TOUCH_RST (out), B24 TOUCH_CLK (out), B25 GPIO6_TOUCH_INT (in), B26 LCD_VDD_EN (out), B27 LCD0_BKLT_PWM (out), B28 LCD_BKLT_EN (out), B29 RSVD, B30 RSVD, B31 GND, B32 RSVD, B33 HDMI_CEC (io), B34 DP0_AUX_CH– (io), B35 DP0_AUX_CH+ (io), B36 DP0_HPD (in), B37 USB0_VBUS_DET (in), B38 GND, B39 USB0_D+ (io), B40 USB0_D– (io), B41 GND, B42 USB2_D+ (io), B43 USB2_D– (io), B44 GND, B45 PEX1_REFCLK+ (out), B46 PEX1_REFCLK– (out), B47 GND, B48 RSVD, B49 RSVD, B50 POWER_BTN#
part C pins: C1 VDD_IN, C2 VDD_IN, C3 GND, C4 GND, C5 RSVD, C6 I2C_CAM_CLK (io), C7 BATLOW# (in), C8 BATT_OC (io), C9 WDT_TIME_OUT# (in), C10 I2C_GP2_DAT (io), C11 I2C_GP2_CLK (io), C12 I2C_GP3_CLK (io), C13 I2C_GP3_DAT (io), C14 I2S1_SDIN (in), C15 I2S1_CLK (io), C16 FAN_PWM (out), C17 CAN1_STBY (out), C18 CAN1_TX (out), C19 CAN1_ERR (in), C20 CAN_WAKE (in), C21 GND, C22 CSI5_D0– (in), C23 CSI5_D0+ (in), C24 GND, C25 CSI3_D0– (in), C26 CSI3_D0+ (in), C27 GND, C28 CSI1_D0– (in), C29 CSI1_D0+ (in), C30 GND, C31 DSI3_D0+ (out), C32 DSI3_D0– (out), C33 GND, C34 DSI1_D0+ (out), C35 DSI1_D0– (out), C36 GND, C37 DP1_TX1– (out), C38 DP1_TX1+ (out), C39 GND, C40 PEX2_TX+ (out), C41 PEX2_TX– (out), C42 GND, C43 USB_SS0_TX+ (out), C44 USB_SS0_TX– (out), C45 GND, C46 PEX2_CLKREQ# (io), C47 PEX1_CLKREQ# (io), C48 PEX0_CLKREQ# (io), C49 PEX0_RST# (out), C50 RSVD
part D pins: D1 RSVD, D2 RSVD, D3 RSVD, D4 RSVD, D5 UART7_RX (in), D6 I2C_CAM_DAT (io), D7 GPIO5_CAM_FLASH_EN (out), D8 UART7_TX (out), D9 UART1_TX (out), D10 UART1_RX (in), D11 RSVD, D12 RSVD, D13 I2S1_LRCLK (io), D14 I2S1_SDOUT (io), D15 I2C_GP0_DAT (io), D16 AO_DMIC_IN_DAT (in), D17 CAN1_RX (in), D18 CAN0_RX (in), D19 CAN0_TX (out), D20 GND, D21 CSI5_CLK– (in), D22 CSI5_CLK+ (in), D23 GND, D24 CSI3_CLK– (in), D25 CSI3_CLK+ (in), D26 GND, D27 CSI1_CLK– (in), D28 CSI1_CLK+ (in), D29 GND, D30 DSI3_CLK+ (out), D31 DSI3_CLK– (out), D32 GND, D33 DSI1_CLK+ (out), D34 DSI1_CLK– (out), D35 GND, D36 DP1_TX2– (out), D37 DP1_TX2+ (out), D38 GND, D39 PEX_RFU_TX+ (out), D40 PEX_RFU_TX– (out), D41 GND, D42 USB_SS1_TX+ (out), D43 USB_SS1_TX– (out), D44 GND, D45 SATA_TX+ (out), D46 SATA_TX– (out), D47 SATA_DEV_SLP (in), D48 PEX_WAKE# (in), D49 PEX2_RST# (out), D50 RSVD
part E pins: E1 FORCE_RECOV# (in), E2 SLEEP# (in), E3 SPI0_CLK (io), E4 SPI0_MISO (io), E5 I2S3_SDIN (in), E6 I2S3_CLK (io), E7 CAM2_MCLK (out), E8 CAM_VSYNC (out), E9 UART1_RTS# (out), E10 UART1_CTS# (in), E11 RSVD, E12 RSVD, E13 RSVD, E14 SPI1_CS0# (io), E15 I2C_GP0_CLK (io), E16 AO_DMIC_IN_CLK (out), E17 RSVD, E18 CAN0_ERR (in), E19 GND, E20 CSI5_D1– (in), E21 CSI5_D1+ (in), E22 GND, E23 CSI3_D1– (in), E24 CSI3_D1+ (in), E25 GND, E26 CSI1_D1– (in), E27 CSI1_D1+ (in), E28 GND, E29 DSI3_D1+ (out), E30 DSI3_D1– (out), E31 GND, E32 DSI1_D1+ (out), E33 DSI1_D1– (out), E34 GND, E35 DP1_TX3– (out), E36 DP1_TX3+ (out), E37 GND, E38 DP1_TX0– (out), E39 DP1_TX0+ (out), E40 GND, E41 PEX1_TX+ (out), E42 PEX1_TX– (out), E43 GND, E44 PEX0_TX+ (out), E45 PEX0_TX– (out), E46 GND, E47 GBE_LINK_ACT# (out), E48 GBE_MDI0+ (io), E49 GBE_MDI0– (io), E50 PEX1_RST# (out)
part F pins: F1 AUDIO_MCLK (out), F2 GPIO19_AUD_RST (out), F3 SPI0_CS0# (io), F4 SPI0_MOSI (io), F5 I2S3_LRCLK (io), F6 I2S3_SDOUT (io), F7 GPIO1_CAM1_PWR# (out), F8 CAM1_MCLK (out), F9 CAM0_MCLK (out), F10 GND, F11 RSVD, F12 RSVD, F13 SPI1_MOSI (io), F14 SPI1_MISO (io), F15 GND, F16 SPI2_CS1# (io), F17 SDCARD_CD# (in), F18 SDCARD_D3 (io), F19 SDCARD_D2 (io), F20 SDCARD_WP (in), F21 GND, F22 CSI4_D0– (in), F23 CSI4_D0+ (in), F24 GND, F25 CSI2_D0– (in), F26 CSI2_D0+ (in), F27 GND, F28 CSI0_D0– (in), F29 CSI0_D0+ (in), F30 GND, F31 DSI2_D0+ (out), F32 DSI2_D0– (out), F33 GND, F34 DSI0_D0+ (out), F35 DSI0_D0– (out), F36 GND, F37 DP0_TX1– (out), F38 DP0_TX1+ (out), F39 GND, F40 PEX2_RX+ (in), F41 PEX2_RX– (in), F42 GND, F43 USB_SS0_RX+ (in), F44 USB_SS0_RX– (in), F45 GND, F46 GBE_LINK1000# (out), F47 GBE_MDI1+ (io), F48 GBE_MDI1– (io), F49 GND, F50 GBE_LINK100# (out)
part G pins: G1 I2S0_SDIN (in), G2 I2S0_CLK (io), G3 GND, G4 DSPK_OUT_CLK (out), G5 I2S2_CLK (io), G6 I2S2_SDIN (in), G7 GPIO4_CAM_STROBE (out), G8 GPIO0_CAM0_PWR# (out), G9 UART3_CTS# (in), G10 UART3_RTS# (out), G11 UART0_RTS# (out), G12 UART0_RX (in), G13 SPI1_CLK (io), G14 GPIO9_MOTION_INT (in), G15 SPI2_MOSI (io), G16 SPI2_CS0# (io), G17 GND, G18 SDCARD_CLK (out), G19 SDCARD_CMD (io), G20 GND, G21 CSI4_CLK– (in), G22 CSI4_CLK+ (in), G23 GND, G24 CSI2_CLK– (in), G25 CSI2_CLK+ (in), G26 GND, G27 CSI0_CLK– (in), G28 CSI0_CLK+ (in), G29 GND, G30 DSI2_CLK+ (out), G31 DSI2_CLK– (out), G32 GND, G33 DSI0_CLK+ (out), G34 DSI0_CLK– (out), G35 GND, G36 DP0_TX2– (out), G37 DP0_TX2+ (out), G38 GND, G39 PEX_RFU_RX+ (in), G40 PEX_RFU_RX– (in), G41 GND, G42 USB_SS1_RX+ (in), G43 USB_SS1_RX– (in), G44 GND, G45 SATA_RX+ (in), G46 SATA_RX– (in), G47 GND, G48 GBE_MDI2+ (io), G49 GBE_MDI2– (io), G50 GND
part H pins: H1 I2S0_LRCLK (io), H2 I2S0_SDOUT (io), H3 GPIO20_AUD_INT (in), H4 DSPK_OUT_DAT (out), H5 I2S2_LRCLK (io), H6 I2S2_SDOUT (io), H7 GPIO3_CAM1_RST# (out), H8 GPIO2_CAM0_RST# (out), H9 UART3_RX (in), H10 UART3_TX (out), H11 UART0_CTS# (in), H12 UART0_TX (out), H13 GPIO8_ALS_PROX_INT (in), H14 SPI2_CLK (io), H15 SPI2_MISO (io), H16 SDCARD_PWR_EN (out), H17 SDCARD_D1 (io), H18 SDCARD_D0 (io), H19 GND, H20 CSI4_D1– (in), H21 CSI4_D1+ (in), H22 GND, H23 CSI2_D1– (in), H24 CSI2_D1+ (in), H25 GND, H26 CSI0_D1– (in), H27 CSI0_D1+ (in), H28 GND, H29 DSI2_D1+ (out), H30 DSI2_D1– (out), H31 GND, H32 DSI0_D1+ (out), H33 DSI0_D1– (out), H34 GND, H35 DP0_TX3– (out), H36 DP0_TX3+ (out), H37 GND, H38 DP0_TX0– (out), H39 DP0_TX0+ (out), H40 GND, H41 PEX1_RX+ (in), H42 PEX1_RX– (in), H43 GND, H44 PEX0_RX+ (in), H45 PEX0_RX– (in), H46 GND, H47 GBE_MDI3+ (io), H48 GBE_MDI3– (io), H49 GND, H50 RSVD

## TP_SMD
designator TP?, comment TEST POINT  (value not drawn)  (no BOM)
TEST POINT SMD SIZE 1.0MM; ValueDescription: TEST POINT; ValueType: TEST POINT; CheckDate: SC 16.01.17; Value: TEST POINT
footprint TP_SMD (TEST POINT SMD SIZE 1.0MM)
pins: 1

## TP_TH
designator TP?, comment TEST POINT  (value not drawn)  (no BOM)
TEST POINT HOLE 0.5MM SIZE 1.1MM; ValueDescription: TEST POINT; ValueType: TEST POINT; CheckDate: SC 16.01.17; Value: TEST POINT
footprint TP_TH (TEST POINT HOLE 0.5MM SIZE 1.1MM)
pins: 1

## USB-A Conn. - 87520
designator X?  value 87520
CONN RCPT USB TYPE A R/A PCB; ValueManufacturer: Amphenol FCI Connectors; TechSpec: USB 2.0; ValueDescription: 87520 USB розетка Amphenol FCI Connectors  14.1x14.5  USB 2.0; ValueType: Connector; Price: 0.77; ComponentLink1Description: Amphenol Datasheet; ComponentLink1URL: http://portal.fciconnect.com/Comergent//fci/drawing/87520.pdf; Package: 14.1x14.5; ValueManufacturerPartNumber: 87520; CheckDate: SC *
footprint USB-A_PCB
pins: 1 VBUS, 2 D-, 3 D+, 4 GND, 5 SHIELD, 6 SHIELD

## XS_PAD_PIN
designator XS?, comment PAD  (value not drawn)  (no BOM)
PAD HOLE 1.1MM SIZE 1.7MM; ValueDescription: PAD; ValueType: PAD; CheckDate: SC; Value: PAD
footprint XS_PAD_PIN (PAD HOLE 1.1MM SIZE 1.7MM)
pins: 1

## XS_PAD_TH
designator XS?, comment PAD  (value not drawn)  (no BOM)
PAD HOLE 0.9MM SIZE 1.5MM; ValueDescription: PAD; ValueType: PAD; CheckDate: SC 16.01.17; Value: PAD
footprint XS_PAD_TH (PAD HOLE 0.9MM SIZE 1.5MM)
pins: 1

## XS_PAD_TH_PWR
designator XS?, comment PWR PAD  (value not drawn)  (no BOM)
PAD HOLE 1.0MM SIZE 2.0MM; ValueDescription: PWR PAD; ValueType: PWR PAD; CheckDate: SC 16.01.17; Value: PWR PAD
footprint XS_PAD_TH_PWR (PAD HOLE 1.0MM SIZE 2.0MM)
pins: 1